# EAGLE library part SLIDE_SWITCH_DPDT (library ANIMAlib)
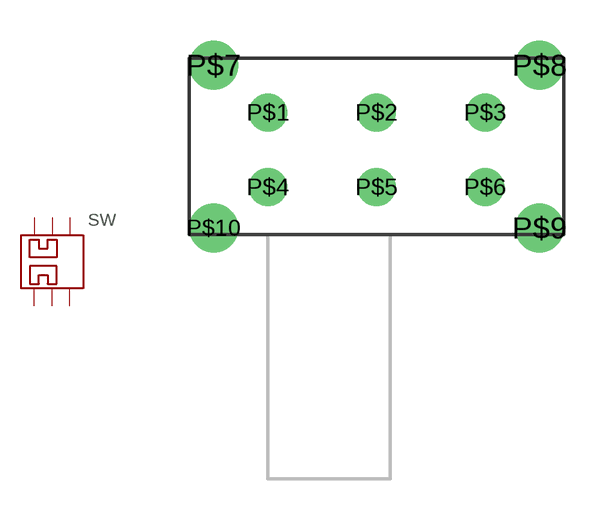
[diagram p17: symbol with the pads of EG2219; footprint EG2219]

Designator prefix SW

## SLIDE_SWITCH_DPDT  [EG2219]
P$1  P$1
P$2  P$2
P$3  P$3
P$4  P$4
P$5  P$5
P$6  P$6

## Footprint EG2219 (pad centres in mm)
EG22119 http://search.digikey.com/scripts/DkSearch/dksus.dll?Detail&name=EG4367-ND http://www.e-switch.com/Portals/0/Series_Pdf/EG.pdf
drill 0.9: P$1 -4,1.25; P$2 0,1.25; P$3 4,1.25; P$4 -4,-1.5; P$5 0,-1.5; P$6 4,-1.5
drill 1.2: P$7 -6,3; P$8 6,3; P$9 6,-3; P$10 -6,-3